# EAGLE library part 6K8 (library radiotubes)
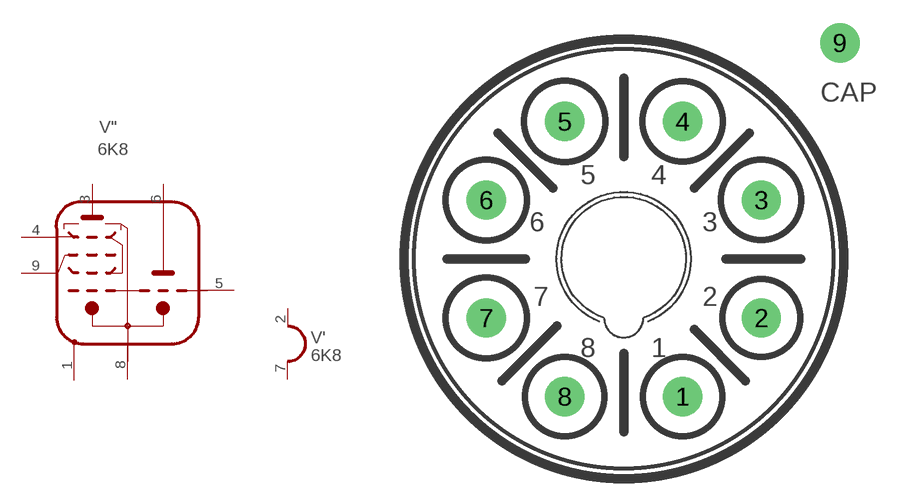
[diagram p120: symbol with the pads of OCTAL-C; footprint OCTAL-C]

Designator prefix V; gates '=HEATER_1 "=6K8 "'=SHIELD1

## 6K8  [OCTAL-C]
1  "':S  pas
2  ':H1  pas
3  ":HA  pas
4  ":HSG  pas
5  ":TG+G3H  pas
6  ":TA  pas
7  ':H2  pas
8  ":K  pas
9  ":HG3  pas

## Footprint OCTAL-C (pad centres in mm)
drill 1.27 pad 2.54: 1 3.81,-8.89; 2 8.89,-3.81; 3 8.89,3.81; 4 3.81,8.89; 5 -3.81,8.89; 6 -8.89,3.81; 7 -8.89,-3.81; 8 -3.81,-8.89; 9 13.97,13.97